# Altium footprint library LAB3.PcbLib: 6 footprints
Each footprint in its own frame and in the unit in brackets; x right, y up, seen from the top. Pads: shape width x height; smd on the part's side, far side on the other; paste and mask are expansions set on the pad; w line width, h text height; cw(c..) or ccw(c..) is an arc to the next point about the centre after c.
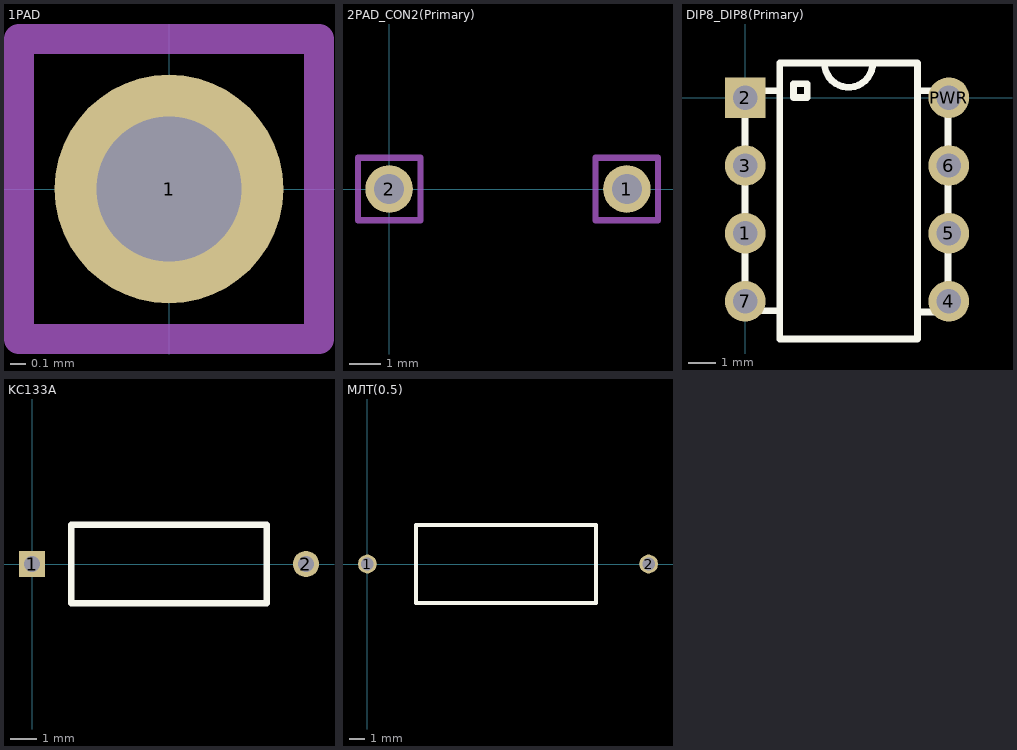
[diagram p0: the footprints below, top view; thin cyan lines are the x and y axes]

## 1PAD [mil]
pads (1):
  round 60 hole 38: 1(0,0)
Mechanical 1:
  lines w7.87: -39.37,-39.37 39.37,-39.37 39.37,39.37 -39.37,39.37 -39.37,-39.37

## 2PAD_CON2(Primary) [mil]
pads (2):
  round 60 hole 38: 1(300,0) 2(0,0)
Mechanical 1:
  lines w7.87: -39.37,-39.37 39.37,-39.37 39.37,39.37 -39.37,39.37 -39.37,-39.37 ; 260.63,-39.37 339.37,-39.37 339.37,39.37 260.63,39.37 260.63,-39.37

## DIP8_DIP8(Primary) [mm]
pads (8):
  round 1.5 hole 0.9: 1(0,-5) 3(0,-2.5) 4(7.5,-7.5) 5(7.5,-5) 6(7.5,-2.5) 7(0,-7.5) PWR(7.5,0)
  rect 1.5x1.5 hole 0.9: 2(0,0)
Top Overlay:
  lines w0.25: -0.004,-7.874 -0.004,0.254 ; 0,-7.85 1.25,-7.85 ; 0,0.25 1.27,0.254 ; 2.921,1.272 ccw(c3.81,1.27) 4.699,1.27 ; 6.35,-7.9 7.45,-7.9 ; 6.35,0.254 7.45,0.25 ; 7.474,-7.874 7.474,0.254 ; 1.27,-8.89 6.35,-8.89 6.35,1.27 1.27,1.27 1.27,-8.89 ; 1.778,0 2.286,0 2.286,0.508 1.778,0.508 1.778,0

## KC133A [mm]
pads (2):
  rect 1x1 hole 0.6: 1(0,0)
  round 1 hole 0.6: 2(10.5,0)
Top Overlay:
  lines w0.254: 1.5,-1.5 9,-1.5 9,1.5 1.5,1.5 1.5,-1.5

## PCBComponent_1 [mm]

## МЛТ(0.5) [mm]
pads (2):
  round 1.2 hole 0.8: 1(0,0) 2(18,0)
Top Overlay:
  lines w0.254: 3.12,-2.5 14.62,-2.5 14.62,2.5 3.12,2.5 3.12,-2.5